# Altium footprint library RLC.PcbLib: 45 footprints (part 3 of 3)
Each footprint in its own frame and in the unit in brackets; x right, y up, seen from the top. Pads: shape width x height; smd on the part's side, far side on the other; paste and mask are expansions set on the pad; w line width, h text height; cw(c..) or ccw(c..) is an arc to the next point about the centre after c.
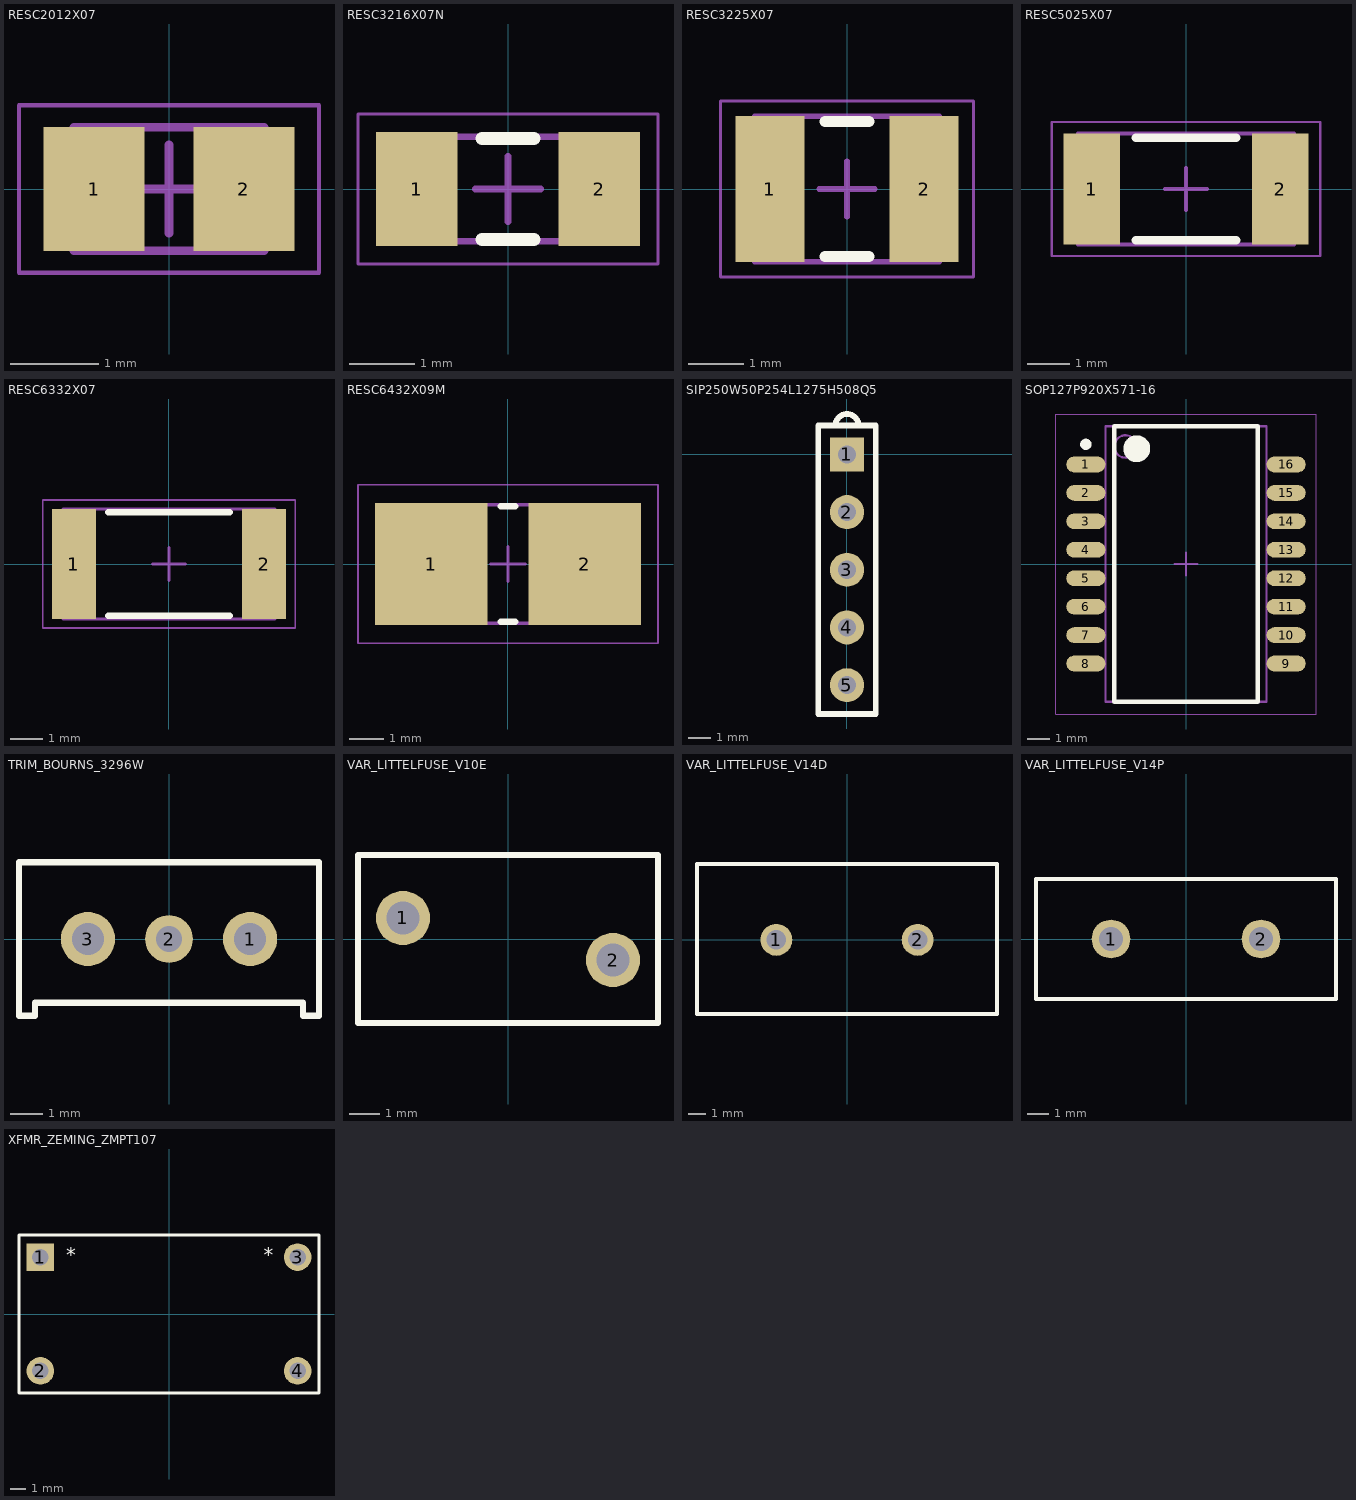
[diagram p2: the footprints below, top view; thin cyan lines are the x and y axes]

## RESC2012X07 [mm] "Chip Resistor, 2-Leads, Body 2,00x1,25mm, IPC Medium Density 0805"
height 0.65
pads (2):
  rect 1.15x1.4 smd: 1(-0.85,0) 2(0.85,0)
3D Body:
  lines w0.1: -1.075,-0.7 -1.075,0.7 1.075,0.7 1.075,-0.7 -1.075,-0.7
Board:
  lines w0.05: -1.7,-0.95 -1.7,0.95 1.7,0.95 1.7,-0.95 -1.7,-0.95
  lines w0.1: -0.5,0 0.5,0 ; 0,-0.5 0,0.5
3D body: height 0.65, standoff 0, extent -0.675,-0.7 0.675,0.7
3D body: height 0.65, standoff 0, extent -1.075,-0.7 -0.675,0.7
3D body: height 0.65, standoff 0, extent 0.675,-0.7 1.075,0.7

## RESC3216X07N [mm] "Chip Resistor, 2-Leads, Body 3,20x1,60mm, IPC Medium Density 1206"
height 0.71
pads (2):
  rect 1.25x1.75 smd: 1(-1.4,0) 2(1.4,0)
Top Overlay:
  lines w0.2: -0.4,-0.775 0.4,-0.775 ; -0.4,0.775 0.4,0.775
TopAssy:
  lines w0.1: -1.6,-0.8 1.6,-0.8 1.6,0.8 -1.6,0.8 -1.6,-0.8
Board:
  lines w0.05: -2.3,-1.15 2.3,-1.15 2.3,1.15 -2.3,1.15 -2.3,-1.15
  lines w0.1: -0.5,0 0.5,0 ; 0,-0.5 0,0.5
3D body "User Library-RESC3216X06N.STEP": height 0.55, standoff 0, extent -1.6,-0.8 1.6,0.8

## RESC3225X07 [mm] "Chip Resistor, 2-Leads, Body 3,20x2,49mm, IPC Medium Density 1210"
height 0.71
pads (2):
  rect 1.25x2.65 smd: 1(-1.4,0) 2(1.4,0)
Top Overlay:
  lines w0.2: -0.4,-1.225 0.4,-1.225 ; -0.4,1.225 0.4,1.225
3D Body:
  lines w0.1: -1.675,-1.32 1.675,-1.32 1.675,1.32 -1.675,1.32 -1.675,-1.32
Board:
  lines w0.05: -2.3,-1.6 2.3,-1.6 2.3,1.6 -2.3,1.6 -2.3,-1.6
  lines w0.1: -0.5,0 0.5,0 ; 0,-0.5 0,0.5
3D body: height 0.71, standoff 0, extent 1.175,-1.32 1.675,1.32
3D body: height 0.71, standoff 0, extent -1.675,-1.32 -1.175,1.32
3D body: height 0.71, standoff 0, extent -1.175,-1.32 1.175,1.32

## RESC5025X07 [mm] "Chip Resistor, 2-Leads, Body 5,00x2,50mm, IPC Medium Density 2010"
height 0.71
pads (2):
  rect 1.35x2.65 smd: 1(-2.25,0) 2(2.25,0)
Top Overlay:
  lines w0.2: -1.2,-1.225 1.2,-1.225 ; -1.2,1.225 1.2,1.225
3D Body:
  lines w0.1: -2.575,-1.325 -2.575,1.325 2.575,1.325 2.575,-1.325 -2.575,-1.325
Board:
  lines w0.05: -3.2,-1.6 -3.2,1.6 3.2,1.6 3.2,-1.6 -3.2,-1.6
  lines w0.1: -0.5,0 0.5,0 ; 0,-0.5 0,0.5
3D body: height 0.71, standoff 0, extent -1.975,-1.325 1.975,1.325
3D body: height 0.71, standoff 0, extent -2.575,-1.325 -1.975,1.325
3D body: height 0.71, standoff 0, extent 1.975,-1.325 2.575,1.325

## RESC6332X07 [mm] "Chip Resistor, 2-Leads, Body 6,30x3,20mm, IPC Medium Density 2512"
height 0.71
pads (2):
  rect 1.35x3.35 smd: 1(-2.9,0) 2(2.9,0)
Top Overlay:
  lines w0.2: -1.85,-1.575 1.85,-1.575 ; -1.85,1.575 1.85,1.575
3D Body:
  lines w0.1: -3.225,-1.675 3.225,-1.675 3.225,1.675 -3.225,1.675 -3.225,-1.675
Board:
  lines w0.05: -3.85,-1.95 3.85,-1.95 3.85,1.95 -3.85,1.95 -3.85,-1.95
  lines w0.1: -0.5,0 0.5,0 ; 0,-0.5 0,0.5
3D body: height 0.71, standoff 0, extent 2.625,-1.675 3.225,1.675
3D body: height 0.71, standoff 0, extent -3.225,-1.675 -2.625,1.675
3D body: height 0.71, standoff 0, extent -2.625,-1.675 2.625,1.675

## RESC6432X09M [mm] "Chip Resistor, 2-Leads, Body 6,35x3,18mm, IPC Low Density 2512"
height 0.88
pads (2):
  rect 3.25x3.55 smd: 1(-2.225,0) 2(2.225,0)
Top Overlay:
  lines w0.2: -0.2,-1.675 0.2,-1.675 ; -0.2,1.675 0.2,1.675
3D Body:
  lines w0.1: -3.3,-1.715 3.3,-1.715 3.3,1.715 -3.3,1.715 -3.3,-1.715
Board:
  lines w0.05: -4.35,-2.3 4.35,-2.3 4.35,2.3 -4.35,2.3 -4.35,-2.3
  lines w0.1: -0.5,0 0.5,0 ; 0,-0.5 0,0.5
3D body: height 0.88, standoff 0, extent 1.09,-1.715 3.3,1.715
3D body: height 0.88, standoff 0, extent -3.3,-1.715 -1.09,1.715
3D body: height 0.88, standoff 0, extent -1.09,-1.715 1.09,1.715

## SIP250W50P254L1275H508Q5 [mm] "Resistor Array Pitch 2.54mm Len 12.75mm Width 2.5mm"
height 5.08
pads (5):
  rect 1.5x1.5 hole 0.8: 1(0,0)
  round 1.5 hole 0.8: 2(0,-2.54) 3(0,-5.08) 4(0,-7.62) 5(0,-10.16)
Top Overlay:
  lines w0.254: -0.508,1.27 cw(c0,1.27) 0.508,1.27 ; -1.27,-11.43 1.27,-11.43 1.27,1.27 -1.27,1.27 -1.27,-11.43

## SOP127P920X571-16 [mm] "SOP, 16-Leads, Body 12,32x7,24mm, Pitch 1,27mm, IPC Low Density"
height 5.71
pads (16):
  oval 1.75x0.7 smd: 1(-4.475,4.445) 2(-4.475,3.175) 3(-4.475,1.905) 4(-4.475,0.635) 5(-4.475,-0.635) 6(-4.475,-1.905) 7(-4.475,-3.175) 8(-4.475,-4.445) 9(4.475,-4.445) 10(4.475,-3.175) 11(4.475,-1.905) 12(4.475,-0.635) 13(4.475,0.635) 14(4.475,1.905) 15(4.475,3.175) 16(4.475,4.445)
Top Overlay:
  circle w0.25: c-4.475,5.345 r0.125
  circle w0.6: c-2.2,5.15 r0.3
  lines w0.2: -3.2,-6.15 -3.2,6.15 3.2,6.15 3.2,-6.15 -3.2,-6.15
3D Body:
  circle w0.1: c-2.7,5.25 r0.5
  lines w0.1: -3.6,-6.15 -3.6,6.15 3.6,6.15 3.6,-6.15 -3.6,-6.15
Board:
  lines w0.05: -5.825,-6.7 -5.825,6.7 5.825,6.7 5.825,-6.7 -5.825,-6.7
  lines w0.1: -0.5,0 0.5,0 ; 0,-0.5 0,0.5
3D body: height 5.71, standoff 0.08, extent -3.6,-6.15 3.6,6.15

## TRIM_BOURNS_3296W [mm] "Potentiometer"
height 10.3
pads (3):
  round 1.7 hole 1: 1(2.54,0) 3(-2.54,0)
  round 1.5 hole 0.8: 2(0,0)
Top Overlay:
  lines w0.2: -4.7,-2.4 -4.2,-2.4 -4.2,-2 0,-2 4.2,-2 4.2,-2.4 4.7,-2.4 4.7,0 4.7,2.4 0,2.4 -4.7,2.4 -4.7,0 -4.7,-2.4
3D body: height 10, standoff 0, extent -4.7,-2.4 4.7,2.4

## VAR_LITTELFUSE_V10E [mm] "VARISTOR DISC 10MM"
height 17
pads (2):
  round 1.81 hole 1.11: 1(-3.5,0.7) 2(3.5,-0.7)
Top Overlay:
  lines w0.2: -5,-2.8 5,-2.8 5,0 5,2.8 -5,2.8 -5,-2.8
3D body: height 12, standoff 2, extent -5,-2.8 5,2.8
3D body: height 8, standoff -2, extent 3.103,-1.099 3.9,-0.301
3D body: height 8, standoff -2, extent -3.906,0.285 -3.109,1.084

## VAR_LITTELFUSE_V14D [mm] "VARISTOR DIAMETR 14mm"
height 20
pads (2):
  round 1.81 hole 1.11: 1(-4,0) 2(4,0)
Top Overlay:
  lines w0.2: -8.5,-4.2 -8.5,4.3 0,4.3 8.5,4.3 8.5,-4.2 -8.5,-4.2
3D body: height 19.5, standoff 2.5, extent -8.5,-4.2 8.5,4.3

## VAR_LITTELFUSE_V14P [mm] "VARISTOR 430V DISC 14MM"
height 20.5
pads (2):
  round 1.81 hole 1.11: 1(-3.5,0) 2(3.5,0)
Top Overlay:
  lines w0.2: -7,-2.8 7,-2.8 7,2 7,2.8 -7,2.8 -7,-2.8
3D body: height 20, standoff 2, extent -7,-2.8 7,2.8

## XFMR_ZEMING_ZMPT107 [mm] "Chineise Transformer"
height 18.2
pads (4):
  rect 1.75x1.75 hole 1.05: 1(-8.15,3.597)
  round 1.75 hole 1.05: 2(-8.15,-3.603) 3(8.15,3.597) 4(8.15,-3.603)
Top Overlay:
  lines w0.2: -9.5,-5 -9.5,0 -9.5,5 9.5,5 9.5,-5 -9.5,-5
  text "*" at 6,3 h1.52
  text "*" at -6.5,3 h1.52
3D body: height 18.2, standoff 0.2, extent -9.5,-5 9.5,5